# EAGLE library part 308T-B-22 (library pot)
POTENTIOMETER TRIPLE GANGE, 1/2" SQUARE
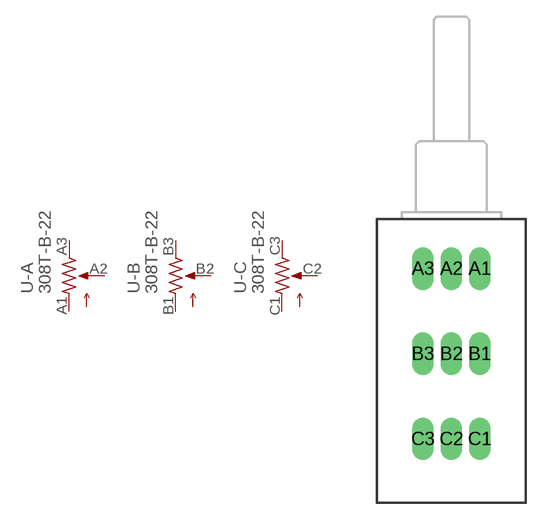
[diagram p2: symbol with the pads of 308T-B-22; footprint 308T-B-22]

Designator prefix U; gates -A=POT_US- -B=POT_US- -C=POT_US-

## 308T-B-22  [308T-B-22]
A1  -A:1  pas
A2  -A:2  pas
A3  -A:3  pas
B1  -B:1  pas
B2  -B:2  pas
B3  -B:3  pas
C1  -C:1  pas
C2  -C:2  pas
C3  -C:3  pas

## Footprint 308T-B-22 (pad centres in mm)
308 Series Potentiometer Clarostat
drill 1.27 long: A1 2.54,0; A2 0,0; A3 -2.54,0; B1 2.54,-7.62; B2 0,-7.62; B3 -2.54,-7.62; C1 2.54,-15.24; C2 0,-15.24; C3 -2.54,-15.24